# Altium footprint library Isolators.PcbLib: 5 footprints
Each footprint in its own frame and in the unit in brackets; x right, y up, seen from the top. Pads: shape width x height; smd on the part's side, far side on the other; paste and mask are expansions set on the pad; w line width, h text height; cw(c..) or ccw(c..) is an arc to the next point about the centre after c.
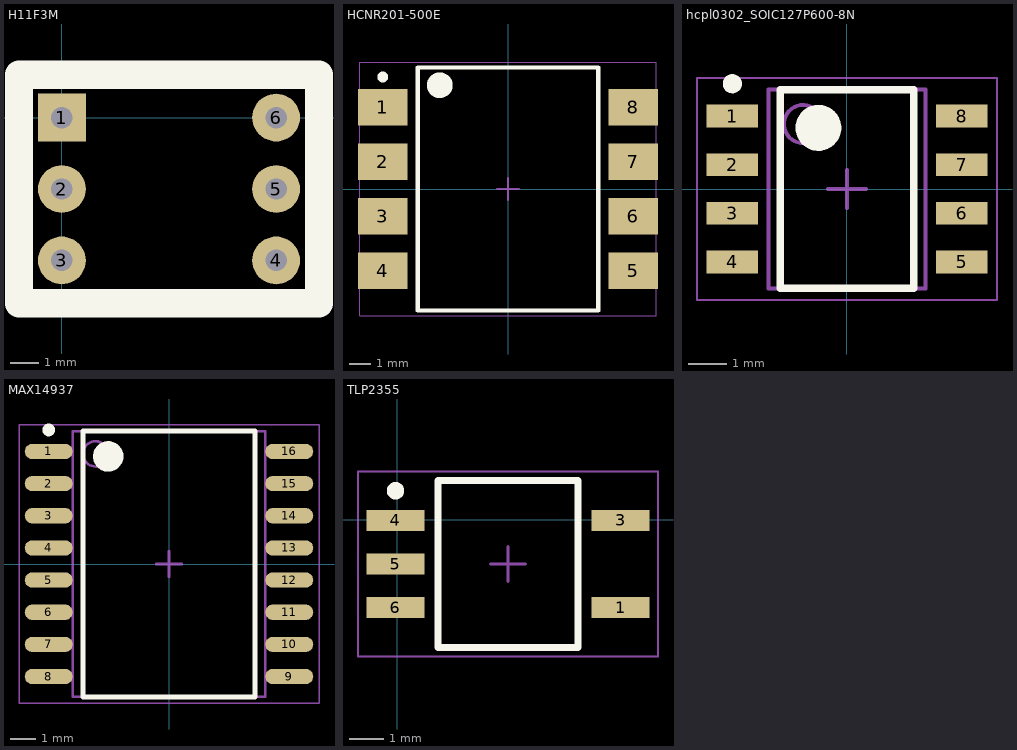
[diagram p0: the footprints below, top view; thin cyan lines are the x and y axes]

## H11F3M [mm]
height 4
pads (6):
  rect 1.7x1.7 hole 0.762: 1(0,0)
  round 1.7 hole 0.762: 2(0,-2.54) 3(0,-5.08) 4(7.62,-5.08) 5(7.62,-2.54) 6(7.62,0)
Top Overlay:
  lines w1: -1.524,-6.604 -1.524,-6.35 -1.524,1.524 -1.27,1.524 0.254,1.524 9.144,1.524 9.144,1.27 9.144,-6.604 8.89,-6.604 -1.524,-6.604

## HCNR201-500E [mm] "HCNR201-500E"
height 4.16
pads (8):
  rect 2.3x1.7 smd: 1(-5.825,3.81) 2(-5.825,1.27) 3(-5.825,-1.27) 4(-5.825,-3.81) 5(5.825,-3.81) 6(5.825,-1.27) 7(5.825,1.27) 8(5.825,3.81)
Top Overlay:
  circle w0.25: c-5.825,5.21 r0.125
  circle w0.6: c-3.175,4.826 r0.3
  lines w0.2: -4.191,-5.65 -4.191,5.65 4.191,5.65 4.191,-5.65 -4.191,-5.65
Mechanical 13:
  circle w0.1: c-3.175,4.826 r0.5
  lines w0.1: -4.191,-5.65 -4.191,5.65 4.191,5.65 4.191,-5.65 -4.191,-5.65
Mechanical 15:
  lines w0.05: -6.9,-5.9 -6.9,5.9 6.9,5.9 6.9,-5.9 -6.9,-5.9
  lines w0.1: -0.5,0 0.5,0 ; 0,-0.5 0,0.5
3D body "HCNR201-500E.step": height 4.16, standoff 0, extent -6.15,-5.65 6.15,5.65

## hcpl0302_SOIC127P600-8N [mm]
height 3.31
pads (8):
  rect 1.35x0.6 smd: 1(-3,1.905) 2(-3,0.635) 3(-3,-0.635) 4(-3,-1.905) 5(3,-1.905) 6(3,-0.635) 7(3,0.635) 8(3,1.905)
Top Overlay:
  circle w0.25: c-3,2.755 r0.125
  circle w0.6: c-0.75,1.6 r0.3
  lines w0.2: -1.75,-2.6 -1.75,2.6 1.75,2.6 1.75,-2.6 -1.75,-2.6
Mechanical 13:
  circle w0.1: c-1.15,1.7 r0.5
  lines w0.1: -2.05,-2.6 -2.05,2.6 2.05,2.6 2.05,-2.6 -2.05,-2.6
Mechanical 15:
  lines w0.05: -3.925,-2.9 -3.925,2.9 3.925,2.9 3.925,-2.9 -3.925,-2.9
  lines w0.1: -0.5,0 0.5,0 ; 0,-0.5 0,0.5
3D body "hcpl0302_SOIC127P600-8N.step": height 3.3, standoff 0, extent -2.997,-2.6 2.997,2.6

## MAX14937 [mm] "Digital Isolators 2 channel"
height 2.65
pads (16):
  oval 1.9x0.6 smd: 1(-4.75,4.445) 2(-4.75,3.175) 3(-4.75,1.905) 4(-4.75,0.635) 5(-4.75,-0.635) 6(-4.75,-1.905) 7(-4.75,-3.175) 8(-4.75,-4.445) 9(4.75,-4.445) 10(4.75,-3.175) 11(4.75,-1.905) 12(4.75,-0.635) 13(4.75,0.635) 14(4.75,1.905) 15(4.75,3.175) 16(4.75,4.445)
Top Overlay:
  circle w0.6: c-2.4,4.25 r0.3
  circle w0.25: c-4.75,5.295 r0.125
  lines w0.2: -3.4,-5.25 3.4,-5.25 3.4,5.25 -3.4,5.25 -3.4,-5.25
Mechanical 13:
  circle w0.1: c-2.9,4.35 r0.5
  lines w0.1: -3.8,-5.25 3.8,-5.25 3.8,5.25 -3.8,5.25 -3.8,-5.25
Mechanical 15:
  lines w0.05: -5.925,-5.5 5.925,-5.5 5.925,5.5 -5.925,5.5 -5.925,-5.5
  lines w0.1: -0.5,0 0.5,0 ; 0,-0.5 0,0.5
3D body "MAX14937.step": height 2.65, standoff 0, extent -5.162,-5.25 5.162,5.25

## TLP2355 [mm] "Optocoupler, Digital Output, 1 Channel, 3.75 kV, 5 Mbps"
height 2.8
pads (5):
  rect 1.65x0.6 smd: 1(6.4,-2.52) 3(6.4,-0.02) 4(-0.05,-0.02) 5(-0.05,-1.27) 6(-0.05,-2.52)
Top Overlay:
  circle w0.25: c-0.05,0.83 r0.125
  lines w0.2: 1.175,-3.67 1.175,1.13 5.175,1.13 5.175,-3.67 1.175,-3.67
Mechanical 13:
  lines w0.1: 1.2,-3.67 5.15,-3.67 5.15,1.13 1.2,1.13 1.2,-3.67
Mechanical 15:
  lines w0.05: -1.125,-3.92 7.475,-3.92 7.475,1.38 -1.125,1.38 -1.125,-3.92
  lines w0.1: 2.675,-1.27 3.675,-1.27 ; 3.175,-1.77 3.175,-0.77
3D body "TLP2355.step": height 2.2, standoff 0, extent -0.525,-3.67 6.875,1.13